# Altium schematic symbol library 1590G2BK.SchLib: 1 symbol
Pins are listed as number, name and electrical type; pins without a type are passive.

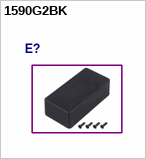
[diagram p0: symbol 1590G2BK]

## 1590G2BK
designator E?  (value not drawn)